# EAGLE library part MAX3377 (library 000001)
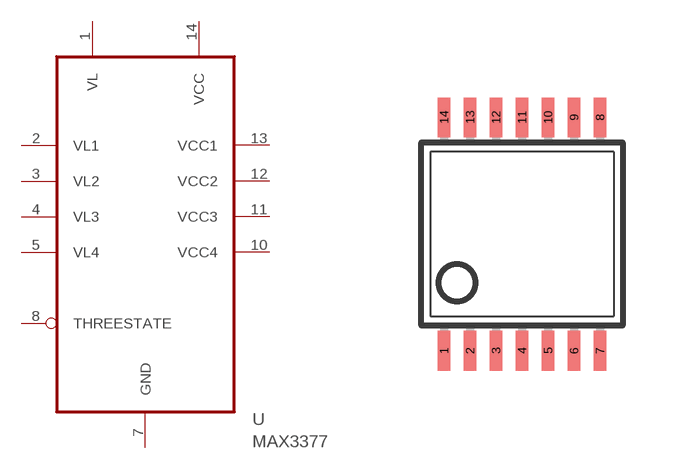
[diagram p118: symbol with the pads of TSSOP14; footprint TSSOP14]

Designator prefix -

## MAX3377  [TSSOP14]
1  VL  pwr
2  VL1
3  VL2
4  VL3
5  VL4
7  GND  pwr
8  THREESTATE  in
10  VCC4
11  VCC3
12  VCC2
13  VCC1
14  VCC  pwr

## Footprint TSSOP14 (pad centres in mm)
Thin Shrink Small Outline Plastic 14 MAX3223-MAX3243.pdf
smd 0.305 x 0.991: 1 -1.95,-2.918; 2 -1.3,-2.918; 3 -0.65,-2.918; 4 0,-2.918; 5 0.65,-2.918; 6 1.3,-2.918; 7 1.95,-2.918; 8 1.95,2.918; 9 1.3,2.918; 10 0.65,2.918; 11 0,2.918; 12 -0.65,2.918; 13 -1.3,2.918; 14 -1.95,2.918